# Altium footprint library module relay.PcbLib: 1 footprints
Each footprint in its own frame and in the unit in brackets; x right, y up, seen from the top. Pads: shape width x height; smd on the part's side, far side on the other; paste and mask are expansions set on the pad; w line width, h text height; cw(c..) or ccw(c..) is an arc to the next point about the centre after c.
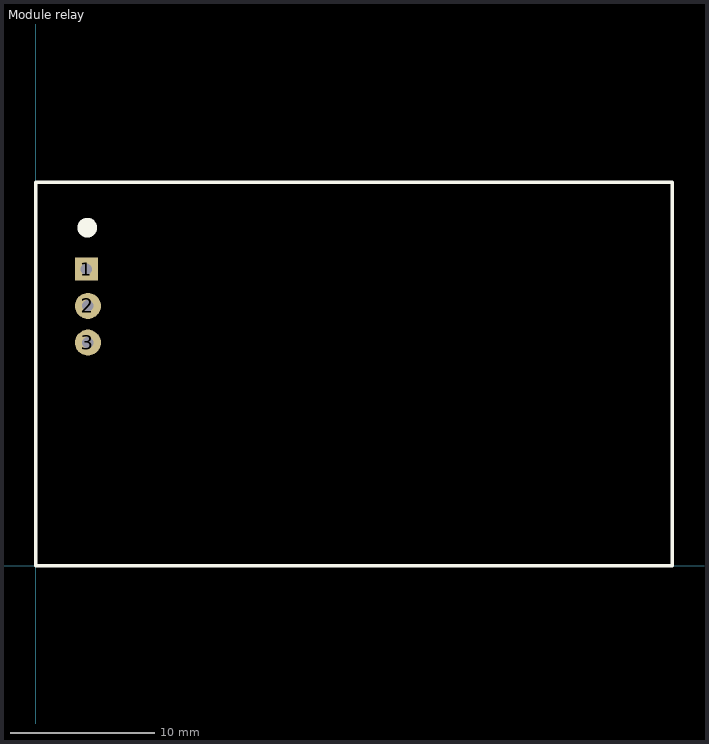
[diagram p0: the footprint, top view; thin cyan lines are the x and y axes]

## Module relay [mm]
pads (3):
  rect 1.6x1.6 hole 0.8: 1(3.5,20.498)
  round 1.8 hole 0.8: 2(3.6,17.958) 3(3.6,15.418)
Top Overlay:
  circle w1: c3.556,23.368 r0.18
  lines w0.254: 0,0 0,26.5 44,26.5 44,0 0,0